# Altium footprint library ac_cap.PcbLib: 1 footprints
Each footprint in its own frame and in the unit in brackets; x right, y up, seen from the top. Pads: shape width x height; smd on the part's side, far side on the other; paste and mask are expansions set on the pad; w line width, h text height; cw(c..) or ccw(c..) is an arc to the next point about the centre after c.
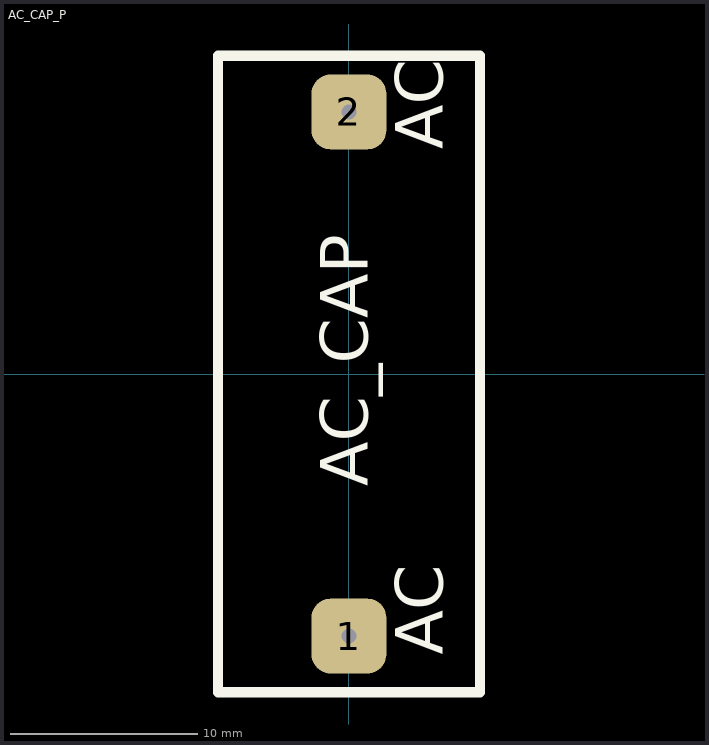
[diagram p0: the footprint, top view; thin cyan lines are the x and y axes]

## AC_CAP_P [mm]
pads (2):
  rrect50% 4x4 hole 0.813: 1(0,-14) 2(0,14)
Top Overlay:
  lines w0.55: -7,-17 0,-17 7,-17 7,0 7,17 0,17 -7,17 -7,0 -7,-17
  text "AC" at 5,-15 h2.54
  text "AC" at 5,12 h2.54
  text "AC_CAP" at 1,-6 h2.54